# EAGLE library part ARDUINO (library arduino)
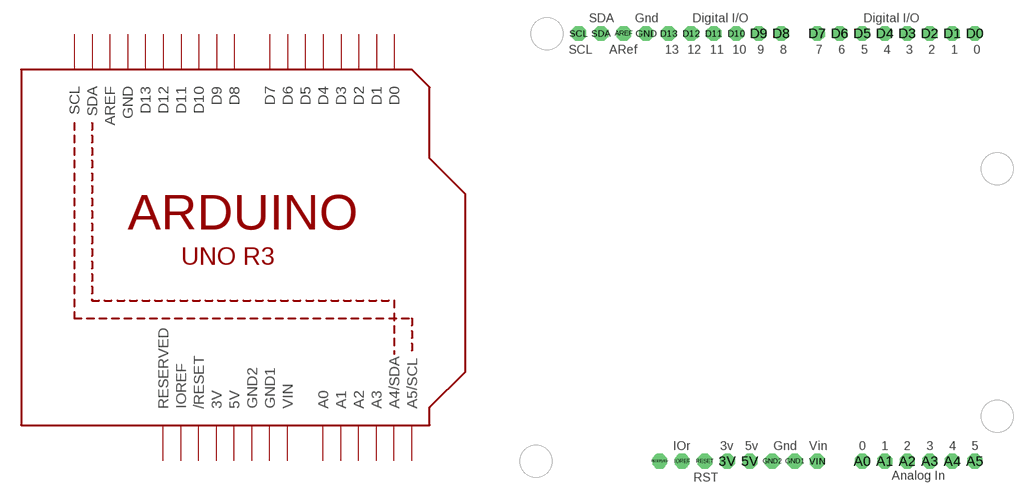
[diagram p0: symbol with the pads of ARDUINO; footprint ARDUINO]

Designator prefix -

## ARDUINO  [ARDUINO]
3V  3V  pwr
5V  5V  pwr
A0  A0
A1  A1
A2  A2
A3  A3
A4  A4/SDA
A5  A5/SCL
AREF  AREF
D0  D0
D1  D1
D2  D2
D3  D3
D4  D4
D5  D5
D6  D6
D7  D7
D8  D8
D9  D9
D10  D10
D11  D11
D12  D12
D13  D13
GND  GND  pwr
GND1  GND1  pwr
GND2  GND2  pwr
IOREF  IOREF  out
RESERVED  RESERVED  nc
RESET  /RESET
SCL  SCL
SDA  SDA
VIN  VIN  pwr

## Footprint ARDUINO (pad centres in mm)
drill 1 pad 1.676 octagon: 3V 26.67,5.08; 5V 29.21,5.08; A0 41.91,5.08; A1 44.45,5.08; A2 46.99,5.08; A3 49.53,5.08; A4 52.07,5.08; A5 54.61,5.08; AREF 14.986,53.34; D0 54.61,53.34; D1 52.07,53.34; D2 49.53,53.34; D3 46.99,53.34; D4 44.45,53.34; D5 41.91,53.34; D6 39.37,53.34; D7 36.83,53.34; D8 32.766,53.34; D9 30.226,53.34; D10 27.686,53.34; D11 25.146,53.34; D12 22.606,53.34; D13 20.066,53.34; GND 17.526,53.34; GND1 34.29,5.08; GND2 31.75,5.08; IOREF 21.59,5.08; RESERVED 19.05,5.08; RESET 24.13,5.08; SCL 9.906,53.34; SDA 12.446,53.34; VIN 36.83,5.08